# Altium schematic symbol library Header 15.SchLib: 1 symbol
Pins are listed as number, name and electrical type; pins without a type are passive.

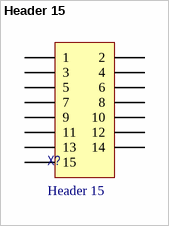
[diagram p0: symbol Header 15]

## Header 15
designator X?
Header, 15-Pin
footprint MDM-15
pins: 1, 2, 3, 4, 5, 6, 7, 8, 9, 10, 11, 12, 13, 14, 15